# Altium schematic symbol library IGBT-P.Schlib: 1 symbol
Pins are listed as number, name and electrical type; pins without a type are passive.

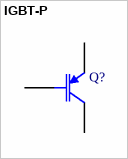
[diagram p0: symbol IGBT-P]

## IGBT-P
designator Q?
PNP Bipolar Junction Transistor
pins: 1 C, 2 G, 3 E